# Altium footprint library Carte_design_PCBLib.PcbLib: 39 footprints (part 2 of 3)
Each footprint in its own frame and in the unit in brackets; x right, y up, seen from the top. Pads: shape width x height; smd on the part's side, far side on the other; paste and mask are expansions set on the pad; w line width, h text height; cw(c..) or ccw(c..) is an arc to the next point about the centre after c.
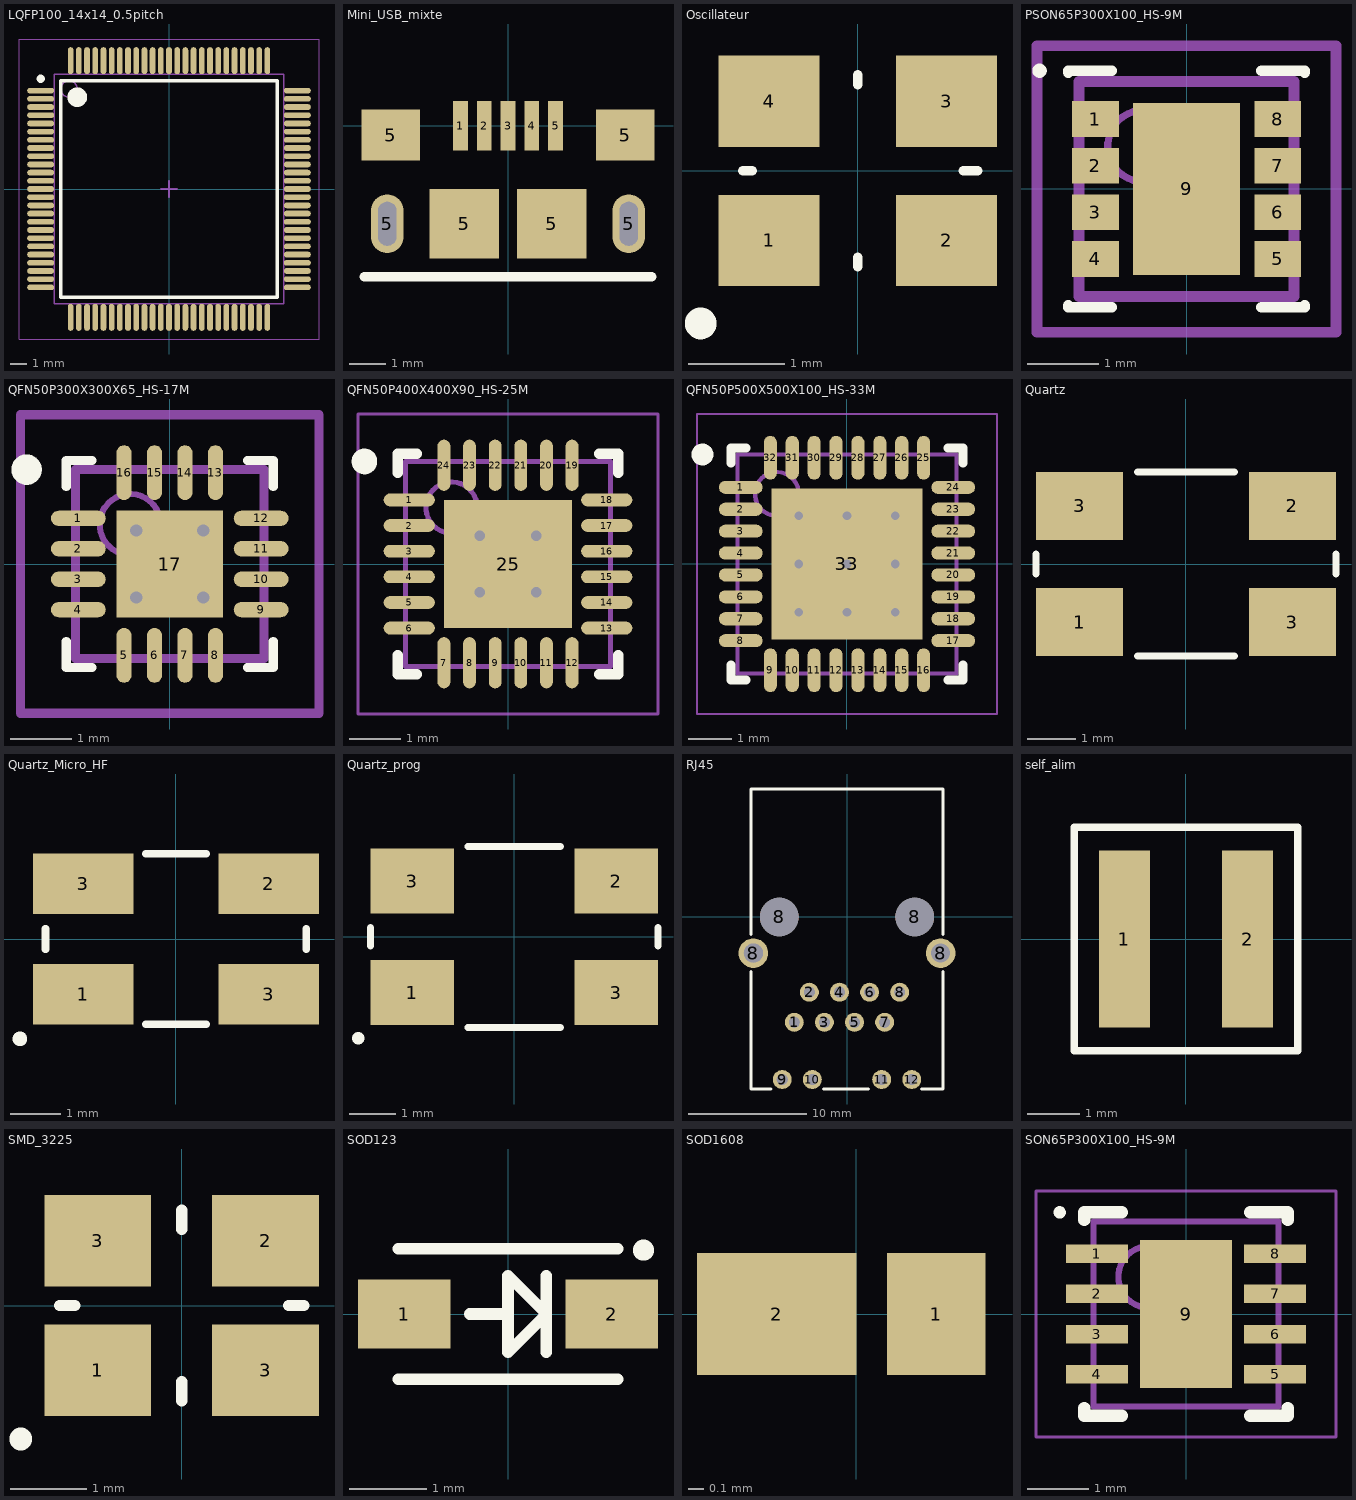
[diagram p1: the footprints below, top view; thin cyan lines are the x and y axes]

## LQFP100_14x14_0.5pitch [mm] "TSQFP, 100-Leads, Body 14,00x14,00mm, Pitch 0,50mm, IPC Low Density"
height 1.6
pads (100):
  oval 1.65x0.35 smd: 1(-7.825,6) 2(-7.825,5.5) 3(-7.825,5) 4(-7.825,4.5) 5(-7.825,4) 6(-7.825,3.5) 7(-7.825,3) 8(-7.825,2.5) 9(-7.825,2) 10(-7.825,1.5) 11(-7.825,1) 12(-7.825,0.5) 13(-7.825,0) 14(-7.825,-0.5) 15(-7.825,-1) 16(-7.825,-1.5) 17(-7.825,-2) 18(-7.825,-2.5) 19(-7.825,-3) 20(-7.825,-3.5) 21(-7.825,-4) 22(-7.825,-4.5) 23(-7.825,-5) 24(-7.825,-5.5) 25(-7.825,-6) 51(7.825,-6) 52(7.825,-5.5) 53(7.825,-5) 54(7.825,-4.5) 55(7.825,-4) 56(7.825,-3.5) 57(7.825,-3) 58(7.825,-2.5) 59(7.825,-2) 60(7.825,-1.5) 61(7.825,-1) 62(7.825,-0.5) 63(7.825,0) 64(7.825,0.5) 65(7.825,1) 66(7.825,1.5) 67(7.825,2) 68(7.825,2.5) 69(7.825,3) 70(7.825,3.5) 71(7.825,4) 72(7.825,4.5) 73(7.825,5) 74(7.825,5.5) 75(7.825,6)
  oval 0.35x1.65 smd: 26(-6,-7.825) 27(-5.5,-7.825) 28(-5,-7.825) 29(-4.5,-7.825) 30(-4,-7.825) 31(-3.5,-7.825) 32(-3,-7.825) 33(-2.5,-7.825) 34(-2,-7.825) 35(-1.5,-7.825) 36(-1,-7.825) 37(-0.5,-7.825) 38(0,-7.825) 39(0.5,-7.825) 40(1,-7.825) 41(1.5,-7.825) 42(2,-7.825) 43(2.5,-7.825) 44(3,-7.825) 45(3.5,-7.825) 46(4,-7.825) 47(4.5,-7.825) 48(5,-7.825) 49(5.5,-7.825) 50(6,-7.825) 76(6,7.825) 77(5.5,7.825) 78(5,7.825) 79(4.5,7.825) 80(4,7.825) 81(3.5,7.825) 82(3,7.825) 83(2.5,7.825) 84(2,7.825) 85(1.5,7.825) 86(1,7.825) 87(0.5,7.825) 88(0,7.825) 89(-0.5,7.825) 90(-1,7.825) 91(-1.5,7.825) 92(-2,7.825) 93(-2.5,7.825) 94(-3,7.825) 95(-3.5,7.825) 96(-4,7.825) 97(-4.5,7.825) 98(-5,7.825) 99(-5.5,7.825) 100(-6,7.825)
Top Overlay:
  circle w0.25: c-7.825,6.725 r0.125
  circle w0.6: c-5.6,5.6 r0.3
  lines w0.2: -6.6,-6.6 -6.6,6.6 6.6,6.6 6.6,-6.6 -6.6,-6.6
Mechanical 13:
  circle w0.1: c-6.1,6.1 r0.5
  lines w0.1: -7,-7 -7,7 7,7 7,-7 -7,-7
Mechanical 15:
  lines w0.05: -9.15,-9.15 -9.15,9.15 9.15,9.15 9.15,-9.15 -9.15,-9.15
  lines w0.1: -0.5,0 0.5,0 ; 0,-0.5 0,0.5
3D body "TSQFP50P1600X1600X160-100M.step": height 1.6, standoff 0, extent -8,-8 8,8

## Mini_USB_mixte [mm]
pads (11):
  rect 0.4x1.35 smd mask+0.13: 1(-1.3,0) 2(-0.65,0) 3(0,0) 4(0.65,0) 5(1.3,0)
  oval 0.9x1.6 hole 0.5 slot 1.2 at 90 deg mask+0.13: 5(-3.3,-2.675) 5(3.3,-2.675)
  rect 1.6x1.4 smd mask+0.13: 5(-3.2,-0.25) 5(3.2,-0.25)
  rect 1.9x1.9 smd mask+0.13: 5(-1.2,-2.675) 5(1.2,-2.675)
Top Overlay:
  lines w0.254: -3.93,-4.125 3.93,-4.125
3D body "10118193-0001LF--3DModel-STEP-56544.STEP": height 2.81, standoff -0.79, extent -3.93,-5.41 3.93,0.3

## Oscillateur [mm]
pads (4):
  rect 1.05x0.95 smd: 1(-0.925,-0.725) 2(0.925,-0.725) 3(0.925,0.725) 4(-0.925,0.725)
Top Overlay:
  circle w0.254: c-1.638,-1.59 r0.038
  lines w0.1: -1.2,0 -1.1,0 ; 0,-1 0,-0.9 ; 0,0.9 0,1 ; 1.1,0 1.25,0

## PSON65P300X100_HS-9M [mm] "PSON, 8-Leads, Body 3,00x3,00mm, Pitch 0,65mm, Thermal Pad 2,40x1,49mm, IPC Low Density"
height 1
pads (9):
  rect 0.65x0.5 smd: 1(-1.27,0.975) 2(-1.27,0.325) 3(-1.27,-0.325) 4(-1.27,-0.975) 5(1.27,-0.975) 6(1.27,-0.325) 7(1.27,0.325) 8(1.27,0.975)
  rect 1.49x2.4 smd: 9(0,0)
Top Overlay:
  circle w0.1: c-2.05,1.65 r0.05
  lines w0.15: -1.65,-1.625 -1.65,-1.65 -1.045,-1.65 ; -1.65,1.625 -1.65,1.65 -1.045,1.65 ; 1.045,-1.65 1.65,-1.65 1.65,-1.625 ; 1.045,1.65 1.65,1.65 1.65,1.625
Mechanical 13:
  circle w0.1: c-0.6,0.6 r0.5
  lines w0.15: -1.5,-1.5 1.5,-1.5 1.5,1.5 -1.5,1.5 -1.5,-1.5
Mechanical 15:
  lines w0.15: -0.5,0 0.5,0 ; 0,-0.5 0,0.5 ; -2.085,-2 2.085,-2 2.085,2 -2.085,2 -2.085,-2
3D body: height 1, standoff 0.05, extent -1.5,-1.5 1.5,1.5

## QFN50P300X300X65_HS-17M [mm] "QFN, 16-Leads, Body 3,00x3,00mm, Pitch 0,50mm, Thermal Pad 1,75x1,75mm, IPC Low Density"
height 0.65
pads (17):
  oval 0.9x0.25 smd mask+0.05: 1(-1.5,0.75) 2(-1.5,0.25) 3(-1.5,-0.25) 4(-1.5,-0.75) 9(1.5,-0.75) 10(1.5,-0.25) 11(1.5,0.25) 12(1.5,0.75)
  oval 0.25x0.9 smd mask+0.05: 5(-0.75,-1.5) 6(-0.25,-1.5) 7(0.25,-1.5) 8(0.75,-1.5) 13(0.75,1.5) 14(0.25,1.5) 15(-0.25,1.5) 16(-0.75,1.5)
  rect 1.75x1.75 smd mask+0.05: 17(0,0)
via 0.55,-0.55 diameter 0.5 hole 0.2
via -0.55,-0.55 diameter 0.5 hole 0.2
via 0.55,0.55 diameter 0.5 hole 0.2
via -0.55,0.55 diameter 0.5 hole 0.2
Top Overlay:
  circle w0.25: c-2.35,1.55 r0.125
  lines w0.15: -1.7,-1.275 -1.7,-1.7 -1.275,-1.7 ; -1.7,1.275 -1.7,1.7 -1.275,1.7 ; 1.275,-1.7 1.7,-1.7 1.7,-1.275 ; 1.275,1.7 1.7,1.7 1.7,1.275
Mechanical 13:
  circle w0.1: c-0.65,0.65 r0.5
  lines w0.15: -1.55,-1.55 1.55,-1.55 1.55,1.55 -1.55,1.55 -1.55,-1.55
Mechanical 15:
  lines w0.15: -0.5,0 0.5,0 ; 0,-0.5 0,0.5 ; -2.45,-2.45 2.45,-2.45 2.45,2.45 -2.45,2.45 -2.45,-2.45
3D body: height 0.65, standoff 0, extent -1.55,-1.55 1.55,1.55

## QFN50P400X400X90_HS-25M [mm] "QFN, 24-Leads, Body 4,00x4,00mm, Pitch 0,50mm, Thermal Pad 2,50x2,50mm, IPC Low Density"
height 0.9
pads (25):
  oval 1x0.25 smd mask+0.13: 1(-1.925,1.25) 2(-1.925,0.75) 3(-1.925,0.25) 4(-1.925,-0.25) 5(-1.925,-0.75) 6(-1.925,-1.25) 13(1.925,-1.25) 14(1.925,-0.75) 15(1.925,-0.25) 16(1.925,0.25) 17(1.925,0.75) 18(1.925,1.25)
  oval 0.25x1 smd mask+0.13: 7(-1.25,-1.925) 8(-0.75,-1.925) 9(-0.25,-1.925) 10(0.25,-1.925) 11(0.75,-1.925) 12(1.25,-1.925) 19(1.25,1.925) 20(0.75,1.925) 21(0.25,1.925) 22(-0.25,1.925) 23(-0.75,1.925) 24(-1.25,1.925)
  rect 2.5x2.5 smd mask+0.13: 25(0,0)
via -0.55,0.55 diameter 0.5 hole 0.2
via 0.55,0.55 diameter 0.5 hole 0.2
via -0.55,-0.55 diameter 0.5 hole 0.2
via 0.55,-0.55 diameter 0.5 hole 0.2
Top Overlay:
  circle w0.25: c-2.8,2 r0.125
  lines w0.2: -2.15,-1.775 -2.15,-2.15 -1.775,-2.15 ; -2.15,1.775 -2.15,2.15 -1.775,2.15 ; 1.775,-2.15 2.15,-2.15 2.15,-1.775 ; 1.775,2.15 2.15,2.15 2.15,1.775
Mechanical 13:
  circle w0.1: c-1.1,1.1 r0.5
  lines w0.1: -2,-2 -2,2 2,2 2,-2 -2,-2
Mechanical 15:
  lines w0.05: -2.925,-2.925 -2.925,2.925 2.925,2.925 2.925,-2.925 -2.925,-2.925
  lines w0.1: -0.5,0 0.5,0 ; 0,-0.5 0,0.5
3D body "QFN50P400X400X90_HS-25M.step": height 0.9, standoff 0, extent -2.05,-2.05 2.05,2.05

## QFN50P500X500X100_HS-33M [mm] "QFN, 32-Leads, Body 5,00x5,00mm, Pitch 0,50mm, Thermal Pad 3,45x3,45mm, IPC Low Density"
height 1
pads (33):
  oval 1x0.3 smd: 1(-2.425,1.75) 2(-2.425,1.25) 3(-2.425,0.75) 4(-2.425,0.25) 5(-2.425,-0.25) 6(-2.425,-0.75) 7(-2.425,-1.25) 8(-2.425,-1.75) 17(2.425,-1.75) 18(2.425,-1.25) 19(2.425,-0.75) 20(2.425,-0.25) 21(2.425,0.25) 22(2.425,0.75) 23(2.425,1.25) 24(2.425,1.75)
  oval 0.3x1 smd: 9(-1.75,-2.425) 10(-1.25,-2.425) 11(-0.75,-2.425) 12(-0.25,-2.425) 13(0.25,-2.425) 14(0.75,-2.425) 15(1.25,-2.425) 16(1.75,-2.425) 25(1.75,2.425) 26(1.25,2.425) 27(0.75,2.425) 28(0.25,2.425) 29(-0.25,2.425) 30(-0.75,2.425) 31(-1.25,2.425) 32(-1.75,2.425)
  rect 3.45x3.45 smd: 33(0,0)
via -1.1,1.1 diameter 0.5 hole 0.2
via 0,1.1 diameter 0.5 hole 0.2
via 1.1,1.1 diameter 0.5 hole 0.2
via -1.1,0 diameter 0.5 hole 0.2
via 0,0 diameter 0.5 hole 0.2
via 1.1,0 diameter 0.5 hole 0.2
via -1.1,-1.1 diameter 0.5 hole 0.2
via 0,-1.1 diameter 0.5 hole 0.2
via 1.1,-1.1 diameter 0.5 hole 0.2
Top Overlay:
  circle w0.25: c-3.3,2.5 r0.125
  lines w0.2: -2.65,-2.3 -2.65,-2.65 -2.3,-2.65 ; -2.65,2.3 -2.65,2.65 -2.3,2.65 ; 2.3,-2.65 2.65,-2.65 2.65,-2.3 ; 2.3,2.65 2.65,2.65 2.65,2.3
Mechanical 13:
  circle w0.1: c-1.6,1.6 r0.5
  lines w0.1: -2.5,-2.5 -2.5,2.5 2.5,2.5 2.5,-2.5 -2.5,-2.5
Mechanical 15:
  lines w0.05: -3.425,-3.425 -3.425,3.425 3.425,3.425 3.425,-3.425 -3.425,-3.425
  lines w0.1: -0.5,0 0.5,0 ; 0,-0.5 0,0.5
3D body: height 1, standoff 0.05, extent -2.5,-2.5 2.5,2.5

## Quartz [mm]
pads (4):
  rect 1.8x1.4 smd: 1(-2.2,-1.2) 2(2.2,1.2) 3(-2.2,1.2) 3(2.2,-1.2)
Top Overlay:
  lines w0.15: -3.1,-0.2 -3.1,0.2 ; -1,-1.9 1,-1.9 ; -1,1.9 1,1.9 ; 3.1,-0.2 3.1,0.2
3D body "User Library-ABMM2.STEP": height 1.21, standoff 0, extent -3,-1.8 3,1.8

## Quartz_Micro_HF [mm]
pads (4):
  rect 2x1.2 smd: 1(-1.85,-1.1) 2(1.85,1.1) 3(-1.85,1.1) 3(1.85,-1.1)
Top Overlay:
  circle w0.254: c-3.11,-1.99 r0.018
  lines w0.15: -2.6,-0.2 -2.6,0.2 ; -0.6,-1.7 0.6,-1.7 ; -0.6,1.7 0.6,1.7 ; 2.6,-0.2 2.6,0.2
3D body "User Library-H53-5x3_2.step": height 1.22, standoff 0, extent -2.5,-1.6 2.5,1.6

## Quartz_prog [mm]
pads (4):
  rect 1.8x1.4 smd: 1(-2.2,-1.2) 2(2.2,1.2) 3(-2.2,1.2) 3(2.2,-1.2)
Top Overlay:
  circle w0.254: c-3.36,-2.185 r0.005
  lines w0.15: -3.1,-0.2 -3.1,0.2 ; -1,-1.95 1,-1.95 ; -1,1.95 1,1.95 ; 3.1,-0.2 3.1,0.2

## RJ45 [mm]
pads (16):
  round 1.6 hole 0.9: 1(-4.445,-8.89) 2(-3.175,-6.35) 3(-1.905,-8.89) 4(-0.635,-6.35) 5(0.635,-8.89) 6(1.905,-6.35) 7(3.175,-8.89) 8(4.445,-6.35) 9(-5.465,-13.72) 10(-2.925,-13.72) 11(2.925,-13.72) 12(5.465,-13.72)
  round 2.5 hole 1.6: 8(-7.9,-3.05) 8(7.9,-3.05)
  round 3.25 hole 3.25: 8(-5.715,0) 8(5.715,0)
Top Overlay:
  lines w0.254: -8.1,-4.6 -8.1,-14.5 -6.4,-14.5 ; -8.1,-1.5 -8.1,10.8 8.1,10.8 8.1,-1.5 ; -2,-14.5 1.8,-14.5 ; 6.3,-14.5 8.1,-14.5 8.1,-4.6
3D body "c-1-2301994-3-a-3d.stp": height 15.7, standoff -3.7, extent -9.875,-10.897 9.875,11.35

## self_alim [mm]
pads (2):
  rect 0.98x3.4 smd: 1(-1.185,0) 2(1.185,0)
Top Overlay:
  lines w0.15: -2.15,-2.15 2.15,-2.15 2.15,2.15 -2.15,2.15 -2.15,-2.15

## SMD_3225 [mm]
pads (4):
  rect 1.4x1.2 smd: 1(-1.1,-0.85) 2(1.1,0.85) 3(-1.1,0.85) 3(1.1,-0.85)
Top Overlay:
  circle w0.254: c-2.11,-1.75 r0.022
  lines w0.15: -1.6,0 -1.4,0 ; 0,-1.25 0,-1 ; 0,1 0,1.25 ; 1.4,0 1.6,0
3D body "User Library-User Library-Siward_SX3225.step": height 0.83, standoff 0.02, extent -1.6,-1.25 1.6,1.25

## SOD123 [mm]
pads (2):
  rect 1.2x0.9 smd: 1(-1.35,0) 2(1.35,0)
Top Overlay:
  circle w0.254: c1.76,0.83 r0.01
  lines w0.15: -1.425,-0.85 1.425,-0.85 ; -1.425,0.85 1.425,0.85 ; -0.5,0 0,0 ; 0.5,-0.5 0.5,0 ; 0.5,0.5 0.5,0 ; 0.5,0 0,-0.5 0,0.5 0.5,0
3D body "User Library-SOD123-1.step": height 1.18, standoff 0, extent -1.95,-0.9 1.95,0.9

## SOD1608 [mm]
pads (2):
  rect 0.65x0.8 smd: 1(0.525,0)
  rect 1.05x0.8 smd: 2(-0.525,0)

## SON65P300X100_HS-9M [mm] "SON, 8-Leads, Body 3,00x3,00mm, Pitch 0,65mm, Thermal Pad 2,40x1,49mm, IPC Low Density"
height 1
pads (9):
  rect 1x0.3 smd: 1(-1.445,0.975) 2(-1.445,0.325) 3(-1.445,-0.325) 4(-1.445,-0.975) 5(1.445,-0.975) 6(1.445,-0.325) 7(1.445,0.325) 8(1.445,0.975)
  rect 1.49x2.4 smd paste-0.745: 9(0,0)
Top Overlay:
  circle w0.1: c-2.05,1.65 r0.05
  lines w0.2: -1.65,-1.525 -1.65,-1.65 -1.045,-1.65 ; -1.65,1.525 -1.65,1.65 -1.045,1.65 ; 1.045,-1.65 1.65,-1.65 1.65,-1.525 ; 1.045,1.65 1.65,1.65 1.65,1.525
Top Paste:
  rectangle: -1.595,0.815 -0.665,2.045
  rectangle: -1.595,-0.615 -0.665,0.615
  rectangle: -1.595,-2.045 -0.665,-0.815
  rectangle: -0.465,0.815 0.465,2.045
  rectangle: -0.465,-0.615 0.465,0.615
  rectangle: -0.465,-2.045 0.465,-0.815
  rectangle: 0.665,0.815 1.595,2.045
  rectangle: 0.665,-0.615 1.595,0.615
  rectangle: 0.665,-2.045 1.595,-0.815
Mechanical 13:
  circle w0.1: c-0.6,0.6 r0.5
  lines w0.1: -1.5,-1.5 -1.5,1.5 1.5,1.5 1.5,-1.5 -1.5,-1.5
Mechanical 15:
  lines w0.05: -2.435,-2 -2.435,2 2.435,2 2.435,-2 -2.435,-2
  lines w0.1: -0.5,0 0.5,0 ; 0,-0.5 0,0.5
3D body: height 1, standoff 0, extent -1.5,-1.5 1.5,1.5